# Altium footprint library PCB - OPTOISOLATOR - TOSHIBA TLP185.PcbLib: 1 footprints
Each footprint in its own frame and in the unit in brackets; x right, y up, seen from the top. Pads: shape width x height; smd on the part's side, far side on the other; paste and mask are expansions set on the pad; w line width, h text height; cw(c..) or ccw(c..) is an arc to the next point about the centre after c.
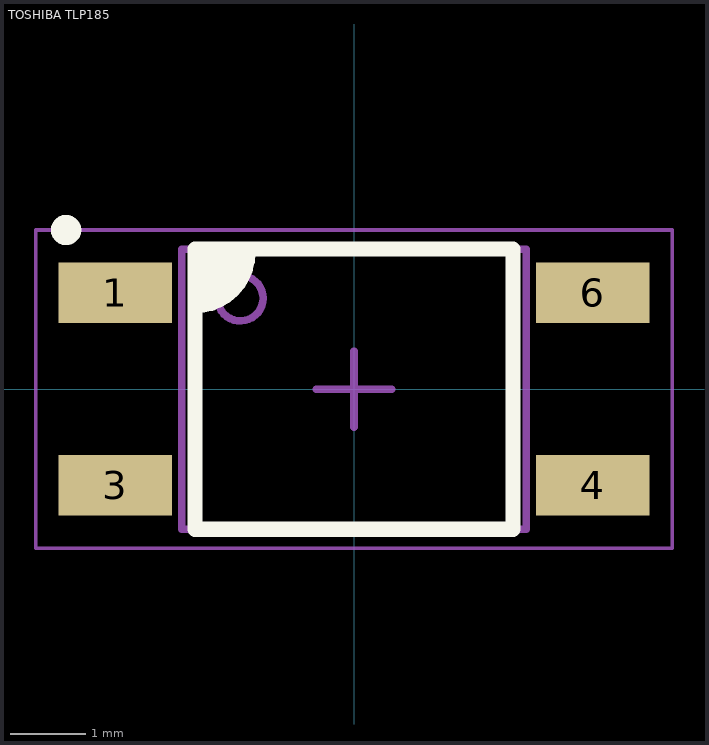
[diagram p0: the footprint, top view; thin cyan lines are the x and y axes]

## TOSHIBA TLP185 [mm] "Optoisolator Transistor Output 3750Vrms 1 Channe, 2.54mm Pitch, 4.55x3.7 mm Body, 6-SOIC Package"
height 2.3
pads (4):
  rect 1.5x0.8 smd: 1(-3.15,1.27) 3(-3.15,-1.27) 4(3.15,-1.27) 6(3.15,1.27)
Top Overlay:
  circle w0.2: c-3.8,2.1 r0.1
  region: -1.3,2.2
  region: -2.1,1.9 -2.1,1.1 -2.031,1.1 -1.896,1.127 -1.768,1.18 -1.654,1.256 -1.556,1.354 -1.48,1.468 -1.427,1.596 -1.4,1.731 -1.4,1.8
  lines w0.2: -1.4,1.8 cw(c-2.1,1.8) -2.1,1.1 ; -2.1,1.1 -2.1,1.1 ; -2.1,-1.849 0,-1.849 2.1,-1.849 2.1,1.849 0,1.849 -2.1,1.849 -2.1,-1.849
Mechanical 13:
  circle w0.1: c-1.5,1.2 r0.3
  lines w0.1: -2.275,-1.849 -2.275,1.849 0,1.849 2.275,1.849 2.275,-1.849 0,-1.849 -2.275,-1.849
Mechanical 15 (Mech15):
  lines w0.05: -4.2,-2.1 4.2,-2.1 4.2,2.1 -4.2,2.1 -4.2,-2.1
  lines w0.1: -0.5,0 0,0 ; 0,-0.5 0,0 ; 0,0.5 0,0 ; 0.5,0 0,0
3D body "Toshiba -SOIC-6 v2.step": height 2.3, standoff 0, extent -3.5,-1.849 3.5,1.849